# EAGLE library part VNH7070ASTR (library VNH7070ASTR)
None
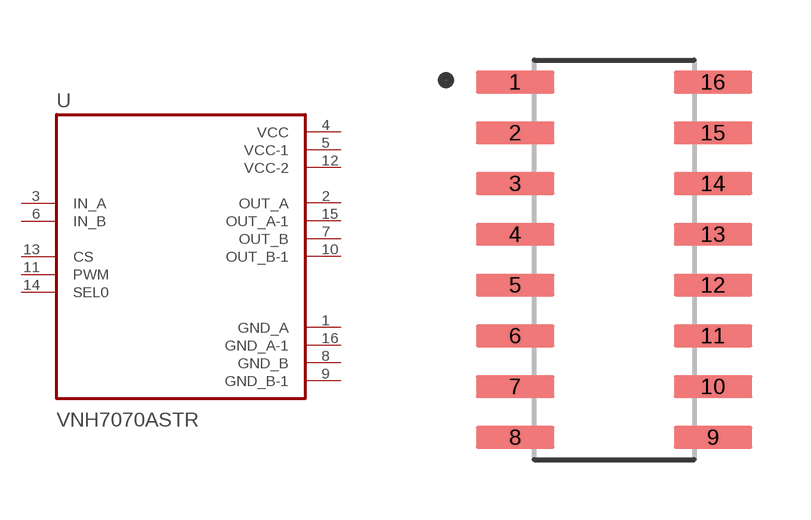
[diagram p0: symbol with the pads of VNH7070ASTR; footprint VNH7070ASTR]

Designator prefix U

## VNH7070ASTR (AVAILABILITY: Unavailable; DESCRIPTION: VNH7070AS Series 15 A Automotive fully integrated H-bridge motor driver-SO-16N; MF: STMicroelectronics; MP: VNH7070ASTR; PACKAGE: SO-16 STMicroelectronics; PRICE: None)  [VNH7070ASTR]
1  GND_A  pwr
2  OUT_A  out
3  IN_A  in
4  VCC  pwr
5  VCC-1  pwr
6  IN_B  in
7  OUT_B  out
8  GND_B  pwr
9  GND_B-1  pwr
10  OUT_B-1  out
11  PWM
12  VCC-2  pwr
13  CS
14  SEL0
15  OUT_A-1  out
16  GND_A-1  pwr

## Footprint VNH7070ASTR (pad centres in mm)
smd 1.97 x 0.57: 1 -2.475,4.445; 2 -2.475,3.175; 3 -2.475,1.905; 4 -2.475,0.635; 5 -2.475,-0.635; 6 -2.475,-1.905; 7 -2.475,-3.175; 8 -2.475,-4.445; 9 2.475,-4.445; 10 2.475,-3.175; 11 2.475,-1.905; 12 2.475,-0.635; 13 2.475,0.635; 14 2.475,1.905; 15 2.475,3.175; 16 2.475,4.445